# Altium footprint library Misc.TH.PcbLib: 66 footprints (part 1 of 5)
Each footprint in its own frame and in the unit in brackets; x right, y up, seen from the top. Pads: shape width x height; smd on the part's side, far side on the other; paste and mask are expansions set on the pad; w line width, h text height; cw(c..) or ccw(c..) is an arc to the next point about the centre after c.
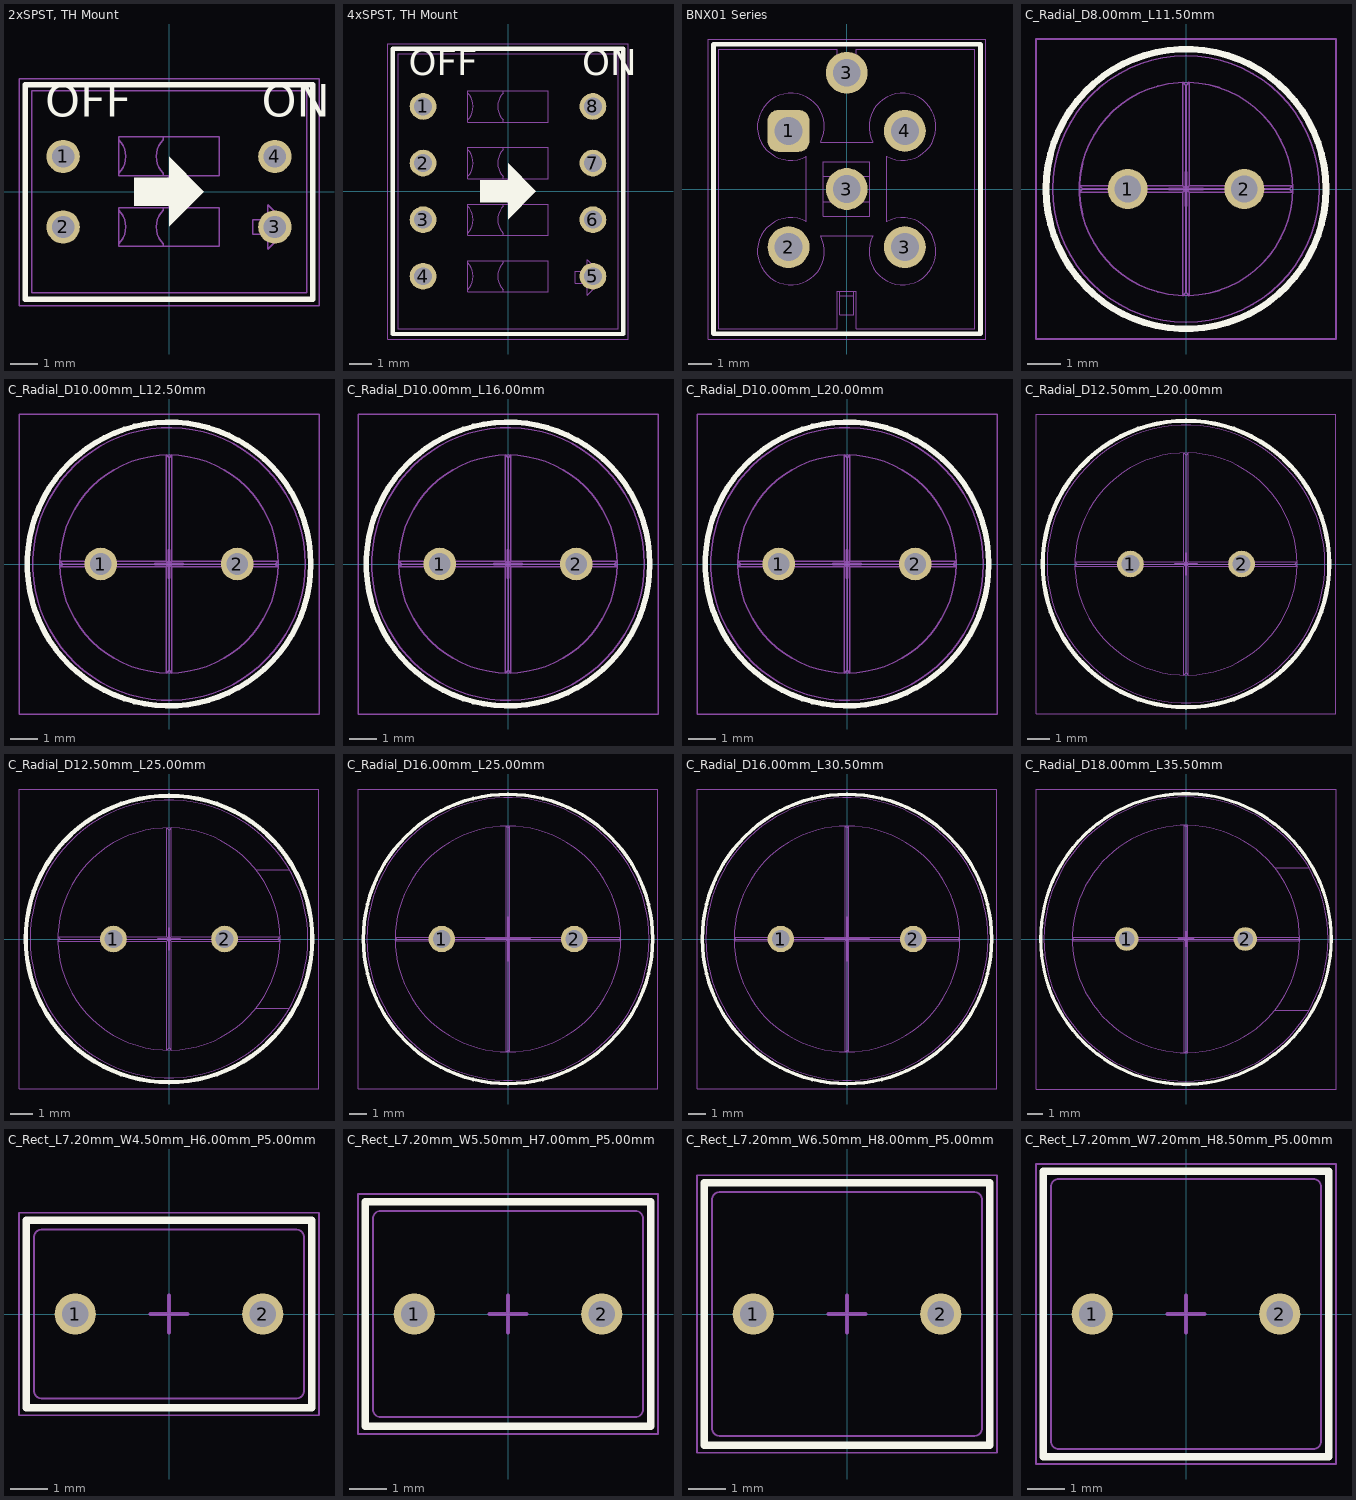
[diagram p0: the footprints below, top view; thin cyan lines are the x and y axes]

## 2xSPST, TH Mount [mm] "Dual SPST Switch, TH-Mount, 9.90x7.26mm Package, Pitch 2.54mm"
height 5.85
pads (4):
  round 1.2 hole 0.8: 1(-3.81,1.27) 2(-3.81,-1.27) 3(3.81,-1.27) 4(3.81,1.27)
Top Overlay:
  region: -1.25,-0.5 -1.25,0.5 0,0.5 0,1.25 1.25,0 0,-1.25 0,-0.5
  lines w0.2: -5.175,-3.875 -5.175,3.85 5.175,3.85 5.175,-3.875 -5.175,-3.875
  text "OFF" at -4.453,2.295 h2
  text "ON" at 3.334,2.295 h2
Mechanical 1:
  lines w0.05: -1.81,-1.872 ccw(c-2.41,-1.27) -1.81,-0.668 ; -1.81,0.668 ccw(c-2.41,1.27) -1.81,1.872 ; -0.21,-1.97 -0.21,-1.872 cw(c0.39,-1.27) -0.21,-0.668 -0.21,-0.57 ; -0.21,0.57 -0.21,0.668 cw(c0.39,1.27) -0.21,1.872 -0.21,1.97 ; -4.95,-3.63 4.95,-3.63 4.95,3.63 -4.95,3.63 -4.95,-3.63 ; -1.81,-1.97 1.81,-1.97 1.81,-0.57 -1.81,-0.57 -1.81,-1.97 ; -1.81,0.57 1.81,0.57 1.81,1.97 -1.81,1.97 -1.81,0.57 ; 3.017,-1.537 3.55,-1.537 3.55,-2.07 4.35,-1.27 3.55,-0.47 3.55,-1.003 3.017,-1.003 3.017,-1.537
Mechanical 15:
  lines w0.05: -5.4,-4.1 -5.4,4.075 5.4,4.075 5.4,-4.1 -5.4,-4.1
  lines w0.1: -0.5,0 0.5,0 ; 0,-0.5 0,0.5
3D body "SW_DIP_SPSTx02_Slide_9.78x7.26mm_W7.62mm_P2.54mm.step": height 6.75, standoff -3.2, extent -4.95,-3.63 4.95,3.63

## 4xSPST, TH Mount [mm] "Quad SPST Switch, TH-Mount, 9.90x12.34mm Package, Pitch 2.54mm"
height 5.85
pads (8):
  round 1.2 hole 0.8: 1(-3.81,3.81) 2(-3.81,1.27) 3(-3.81,-1.27) 4(-3.81,-3.81) 5(3.81,-3.81) 6(3.81,-1.27) 7(3.81,1.27) 8(3.81,3.81)
Top Overlay:
  region: -1.25,-0.5 -1.25,0.5 0,0.5 0,1.25 1.25,0 0,-1.25 0,-0.5
  lines w0.2: -5.175,-6.4 5.175,-6.4 5.175,6.4 -5.175,6.4 -5.175,-6.4
  text "ON" at 3.334,4.835 h2
  text "OFF" at -4.453,4.835 h2
Mechanical 1:
  lines w0.05: -4.95,6.17 -4.95,-6.17 4.95,-6.17 4.95,6.17 -4.95,6.17 ; -1.81,-4.412 ccw(c-2.41,-3.81) -1.81,-3.208 ; -1.81,-1.872 ccw(c-2.41,-1.27) -1.81,-0.668 ; -1.81,0.668 ccw(c-2.41,1.27) -1.81,1.872 ; -1.81,3.208 ccw(c-2.41,3.81) -1.81,4.412 ; -0.21,-4.51 -0.21,-4.412 cw(c0.39,-3.81) -0.21,-3.208 -0.21,-3.11 ; -0.21,-1.97 -0.21,-1.872 cw(c0.39,-1.27) -0.21,-0.668 -0.21,-0.57 ; -0.21,0.57 -0.21,0.668 cw(c0.39,1.27) -0.21,1.872 -0.21,1.97 ; -0.21,3.11 -0.21,3.208 cw(c0.39,3.81) -0.21,4.412 -0.21,4.51 ; -1.81,-4.51 -1.81,-3.11 1.81,-3.11 1.81,-4.51 -1.81,-4.51 ; -1.81,-1.97 -1.81,-0.57 1.81,-0.57 1.81,-1.97 -1.81,-1.97 ; -1.81,0.57 1.81,0.57 1.81,1.97 -1.81,1.97 -1.81,0.57 ; -1.81,3.11 -1.81,4.51 1.81,4.51 1.81,3.11 -1.81,3.11 ; 3.017,-4.127 3.017,-3.593 3.55,-3.593 3.55,-3.06 4.35,-3.86 3.55,-4.66 3.55,-4.127 3.017,-4.127
Mechanical 15:
  lines w0.05: -5.4,-6.625 5.4,-6.625 5.4,6.625 -5.4,6.625 -5.4,-6.625
  lines w0.1: -0.5,0 0.5,0 ; 0,-0.5 0,0.5
3D body "SW_DIP_SPSTx04_Slide_9.78x12.34mm_W7.62mm_P2.54mm.step": height 6.75, standoff -3.2, extent -4.95,-6.17 4.95,6.17

## BNX01 Series [mm] "Murata BNX01 Series Filter, 12.00x11.00mm, 6-Leads, 2.50mm Pitch"
height 8
pads (6):
  rrect50% 1.8x1.8 hole 1.2: 1(-2.5,2.5)
  round 1.8 hole 1.2: 2(-2.5,-2.5) 3(0,0) 3(0,5) 3(2.5,-2.5) 4(2.5,2.5)
Top Overlay:
  lines w0.2: -5.725,-6.225 5.75,-6.225 5.75,6.225 -5.725,6.225 -5.725,-6.225
Mechanical 1:
  lines w0.05: -1,-0.546 1,-0.546 ; -1,0.546 1,0.546 ; -0.3,-4.6 0.3,-4.6 ; -0.3,-4.4 -0.3,-5.4 0.3,-5.4 0.3,-4.4 ; -5.5,-6 -0.4,-6 -0.4,-4.4 0.4,-4.4 0.4,-6 5.5,-6 5.5,6 0.4,6 0.4,4.4 -0.4,4.4 -0.4,6 -5.5,6 -5.5,-6 ; -1.73,-1.4 ccw(c-2.4,-2.676) -1.124,-2.006 1.124,-2.006 ccw(c2.4,-2.676) 1.73,-1.4 1.73,1.4 ccw(c2.4,2.676) 1.124,2.006 -1.124,2.006 ccw(c-2.4,2.676) -1.73,1.4 -1.73,-1.4 ; -1,-1.176 1,-1.176 1,1.176 -1,1.176 -1,-1.176 ; -0.3,4.6 -0.3,5.4 0.3,5.4 0.3,4.6 -0.3,4.6
Mechanical 15:
  lines w0.05: -5.95,-6.45 5.975,-6.45 5.975,6.45 -5.95,6.45 -5.95,-6.45
  lines w0.1: -0.5,0 0.5,0 ; 0,-0.5 0,0.5
3D body "BNX016-01--3DModel-STEP-1.STEP": height 8.7, standoff -3.8, extent -5.5,-6 5.5,6

## C_Radial_D8.00mm_L11.50mm [mm] "Radial Capacitor, Diameter 8.00mm, Length 11.50mm, Pitch 3.50mm"
height 11.5
pads (2):
  round 1.2 hole 0.8: 1(-1.75,0) 2(1.75,0)
Top Overlay:
  circle w0.2: c0,0 r4.2
Mechanical 1:
  circle w0.05: c0,0 r4
  circle w0.05: c0,0 r3.2
  lines w0.05: -3.1,0 3.1,0 ; -3.1,0 -3.198,0.1 -0.1,0.1 ; -3.1,0 -3.198,-0.1 -0.1,-0.1 ; -0.1,-0.1 0.1,0.1 ; -0.1,-0.1 -0.1,-3.198 0,-3.1 ; -0.1,0.1 -0.1,3.198 0,3.1 ; -0.1,0.1 0.1,-0.1 ; 0,-3.1 0,3.1 ; 0,-3.1 0.1,-3.198 0.1,-0.1 ; 0,3.1 0.1,3.198 0.1,0.1 ; 0.1,-0.1 3.198,-0.1 3.1,0 ; 0.1,0.1 3.198,0.1 3.1,0
Mechanical 15:
  lines w0.05: -4.5,-4.5 -4.5,4.5 4.5,4.5 4.5,-4.5 -4.5,-4.5
  lines w0.1: -0.5,0 0.5,0 ; 0,-0.5 0,0.5
3D body "Capacitor_Unpolarised_Radial_D8.00mm_L11.50mm_P3.5mm.STEP": height 11.5, standoff -3.2, extent -4,-4 4,4

## C_Radial_D10.00mm_L12.50mm [mm] "Radial Capacitor, Diameter 10.00mm, Length 12.50mm, Pitch 5.00mm"
height 12.5
pads (2):
  round 1.2 hole 0.8: 1(-2.5,0) 2(2.5,0)
Top Overlay:
  circle w0.2: c0,0 r5.2
Mechanical 1:
  circle w0.05: c0,0 r4
  circle w0.05: c0,0 r5
  lines w0.05: -3.9,0 -3.999,-0.1 -0.1,-0.1 ; -3.9,0 -3.999,0.1 -0.1,0.1 ; -3.9,0 3.9,0 ; -0.1,-0.1 -0.1,-3.999 0,-3.9 ; -0.1,-0.1 0.1,0.1 ; -0.1,0.1 0.1,-0.1 ; -0.1,0.1 -0.1,3.999 0,3.9 ; 0,-3.9 0.1,-3.999 0.1,-0.1 ; 0,-3.9 0,3.9 ; 0,3.9 0.1,3.999 0.1,0.1 ; 0.1,-0.1 3.999,-0.1 3.9,0 ; 0.1,0.1 3.999,0.1 3.9,0
Mechanical 15:
  lines w0.05: -5.5,-5.5 5.5,-5.5 5.5,5.5 -5.5,5.5 -5.5,-5.5
  lines w0.1: -0.5,0 0.5,0 ; 0,-0.5 0,0.5
3D body "Capacitor_Unpolarised_Radial_D10.00mm_L12.50mm_P5.0mm.STEP": height 12.5, standoff -3.2, extent -4.994,-5 4.994,5

## C_Radial_D10.00mm_L16.00mm [mm] "Radial Capacitor, Diameter 10.00mm, Length 16.00mm, Pitch 5.00mm"
height 16
pads (2):
  round 1.2 hole 0.8: 1(-2.5,0) 2(2.5,0)
Top Overlay:
  circle w0.2: c0,0 r5.2
Mechanical 1:
  circle w0.05: c0,0 r4
  circle w0.05: c0,0 r5
  lines w0.05: -3.9,0 -3.999,-0.1 -0.1,-0.1 ; -3.9,0 -3.999,0.1 -0.1,0.1 ; -3.9,0 3.9,0 ; -0.1,-0.1 -0.1,-3.999 0,-3.9 ; -0.1,-0.1 0.1,0.1 ; -0.1,0.1 0.1,-0.1 ; -0.1,0.1 -0.1,3.999 0,3.9 ; 0,-3.9 0.1,-3.999 0.1,-0.1 ; 0,-3.9 0,3.9 ; 0,3.9 0.1,3.999 0.1,0.1 ; 0.1,-0.1 3.999,-0.1 3.9,0 ; 0.1,0.1 3.999,0.1 3.9,0
Mechanical 15:
  lines w0.05: -5.5,-5.5 5.5,-5.5 5.5,5.5 -5.5,5.5 -5.5,-5.5
  lines w0.1: -0.5,0 0.5,0 ; 0,-0.5 0,0.5
3D body "Capacitor_Unpolarised_Radial_D10.00mm_L16.00mm_P5.0mm.STEP": height 16, standoff -3.2, extent -4.994,-5 4.994,5

## C_Radial_D10.00mm_L20.00mm [mm] "Radial Capacitor, Diameter 10.00mm, Length 20.00mm, Pitch 5.00mm"
height 20
pads (2):
  round 1.2 hole 0.8: 1(-2.5,0) 2(2.5,0)
Top Overlay:
  circle w0.2: c0,0 r5.2
Mechanical 1:
  circle w0.05: c0,0 r5
  circle w0.05: c0,0 r4
  lines w0.05: -3.9,0 3.9,0 ; -3.9,0 -3.999,0.1 -0.1,0.1 ; -3.9,0 -3.999,-0.1 -0.1,-0.1 ; -0.1,-0.1 0.1,0.1 ; -0.1,-0.1 -0.1,-3.999 0,-3.9 ; -0.1,0.1 -0.1,3.999 0,3.9 ; -0.1,0.1 0.1,-0.1 ; 0,-3.9 0,3.9 ; 0,-3.9 0.1,-3.999 0.1,-0.1 ; 0,3.9 0.1,3.999 0.1,0.1 ; 0.1,-0.1 3.999,-0.1 3.9,0 ; 0.1,0.1 3.999,0.1 3.9,0
Mechanical 15:
  lines w0.05: -5.5,-5.5 -5.5,5.5 5.5,5.5 5.5,-5.5 -5.5,-5.5
  lines w0.1: -0.5,0 0.5,0 ; 0,-0.5 0,0.5
3D body "Capacitor_Unpolarised_Radial_D10.00mm_L20.00mm_P5.0mm.STEP": height 20, standoff -3.2, extent -4.994,-5 4.994,5

## C_Radial_D12.50mm_L20.00mm [mm] "Radial Capacitor, Diameter 12.50mm, Length 20.00mm, Pitch 5.00mm"
height 20
pads (2):
  round 1.2 hole 0.8: 1(-2.5,0) 2(2.5,0)
Top Overlay:
  circle w0.2: c0,0 r6.45
Mechanical 1:
  circle w0.05: c0,0 r6.25
  circle w0.05: c0,0 r5
  lines w0.05: -4.9,0 4.9,0 ; -4.9,0 -4.999,0.1 -0.1,0.1 ; -4.9,0 -4.999,-0.1 -0.1,-0.1 ; -0.1,-0.1 0.1,0.1 ; -0.1,-0.1 -0.1,-4.999 0,-4.9 ; -0.1,0.1 -0.1,4.999 0,4.9 ; -0.1,0.1 0.1,-0.1 ; 0,-4.9 0,4.9 ; 0,-4.9 0.1,-4.999 0.1,-0.1 ; 0,4.9 0.1,4.999 0.1,0.1 ; 0.1,-0.1 4.999,-0.1 4.9,0 ; 0.1,0.1 4.999,0.1 4.9,0
Mechanical 15:
  lines w0.05: -6.75,-6.75 6.75,-6.75 6.75,6.75 -6.75,6.75 -6.75,-6.75
  lines w0.1: -0.5,0 0.5,0 ; 0,-0.5 0,0.5
3D body "Capacitor_Unpolarised_Radial_D12.50mm_L20.00mm_P5.0mm.STEP": height 20, standoff -3.2, extent -6.238,-6.25 6.238,6.25

## C_Radial_D12.50mm_L25.00mm [mm] "Radial Capacitor, Diameter 12.50mm, Length 25.00mm, Pitch 5.00mm"
height 25
pads (2):
  round 1.2 hole 0.8: 1(-2.5,0) 2(2.5,0)
Top Overlay:
  circle w0.2: c0,0 r6.45
Mechanical 1:
  circle w0.05: c0,0 r5
  circle w0.05: c0,0 r6.25
  lines w0.05: 3.903,-3.125 5.049,-3.125 5.413,-3.125 ; 3.903,3.125 5.049,3.125 5.413,3.125 ; -4.9,0 -4.999,-0.1 -0.1,-0.1 ; -4.9,0 -4.999,0.1 -0.1,0.1 ; -4.9,0 4.9,0 ; -0.1,-0.1 -0.1,-4.999 0,-4.9 ; -0.1,-0.1 0.1,0.1 ; -0.1,0.1 0.1,-0.1 ; -0.1,0.1 -0.1,4.999 0,4.9 ; 0,-4.9 0.1,-4.999 0.1,-0.1 ; 0,-4.9 0,4.9 ; 0,4.9 0.1,4.999 0.1,0.1 ; 0.1,-0.1 4.999,-0.1 4.9,0 ; 0.1,0.1 4.999,0.1 4.9,0
Mechanical 15:
  lines w0.05: -6.75,-6.75 -6.75,6.75 6.75,6.75 6.75,-6.75 -6.75,-6.75
  lines w0.1: -0.5,0 0.5,0 ; 0,-0.5 0,0.5
3D body "Capacitor_Unpolarised_Radial_D12.50mm_L25.00mm_P5.0mm.STEP": height 25, standoff -3.2, extent -6.25,-6.25 6.25,6.25

## C_Radial_D16.00mm_L25.00mm [mm] "Radial Capacitor, Diameter 16.00mm, Length 25.00mm, Pitch 7.50mm"
height 25
pads (2):
  round 1.5 hole 1: 1(-3.75,0) 2(3.75,0)
Top Overlay:
  circle w0.2: c0,0 r8.2
Mechanical 1:
  circle w0.05: c0,0 r8
  circle w0.05: c0,0 r6.4
  lines w0.05: -6.3,0 6.3,0 ; -6.3,0 -6.399,0.1 -0.1,0.1 ; -6.3,0 -6.399,-0.1 -0.1,-0.1 ; -0.1,-0.1 0.1,0.1 ; -0.1,-0.1 -0.1,-6.399 0,-6.3 ; -0.1,0.1 -0.1,6.399 0,6.3 ; -0.1,0.1 0.1,-0.1 ; 0,-6.3 0,6.3 ; 0,-6.3 0.1,-6.399 0.1,-0.1 ; 0,6.3 0.1,6.399 0.1,0.1 ; 0.1,-0.1 6.399,-0.1 6.3,0 ; 0.1,0.1 6.399,0.1 6.3,0
Mechanical 15:
  lines w0.05: -8.5,-8.5 -8.5,8.5 8.5,8.5 8.5,-8.5 -8.5,-8.5
  lines w0.1: -1.25,0 1.25,0 ; 0,-1.25 0,1.25
3D body "Capacitor_Unpolarised_Radial_D16.00mm_L25.00mm_P7.5mm.STEP": height 25, standoff -3.2, extent -7.99,-8 7.99,8

## C_Radial_D16.00mm_L30.50mm [mm] "Radial Capacitor, Diameter 16.00mm, Length 30.50mm, Pitch 7.50mm"
height 30.5
pads (2):
  round 1.5 hole 1: 1(-3.75,0) 2(3.75,0)
Top Overlay:
  circle w0.2: c0,0 r8.2
Mechanical 1:
  circle w0.05: c0,0 r6.4
  circle w0.05: c0,0 r8
  lines w0.05: -6.3,0 -6.399,-0.1 -0.1,-0.1 ; -6.3,0 -6.399,0.1 -0.1,0.1 ; -6.3,0 6.3,0 ; -0.1,-0.1 -0.1,-6.399 0,-6.3 ; -0.1,-0.1 0.1,0.1 ; -0.1,0.1 0.1,-0.1 ; -0.1,0.1 -0.1,6.399 0,6.3 ; 0,-6.3 0.1,-6.399 0.1,-0.1 ; 0,-6.3 0,6.3 ; 0,6.3 0.1,6.399 0.1,0.1 ; 0.1,-0.1 6.399,-0.1 6.3,0 ; 0.1,0.1 6.399,0.1 6.3,0
Mechanical 15:
  lines w0.05: -8.5,-8.5 8.5,-8.5 8.5,8.5 -8.5,8.5 -8.5,-8.5
  lines w0.1: -1.25,0 1.25,0 ; 0,-1.25 0,1.25
3D body "Capacitor_Unpolarised_Radial_D16.00mm_L30.50mm_P7.5mm.STEP": height 30.5, standoff -3.2, extent -7.99,-8 7.99,8

## C_Radial_D18.00mm_L35.50mm [mm] "Radial Capacitor, Diameter 18.00mm, Length 35.50mm, Pitch 7.50mm"
height 35.5
pads (2):
  round 1.5 hole 1: 1(-3.75,0) 2(3.75,0)
Top Overlay:
  circle w0.2: c0,0 r9.2
Mechanical 1:
  circle w0.05: c0,0 r7.2
  circle w0.05: c0,0 r9
  lines w0.05: 5.62,-4.5 7.27,-4.5 7.794,-4.5 ; 5.62,4.5 7.27,4.5 7.794,4.5 ; -7.1,0 -7.199,-0.1 -0.1,-0.1 ; -7.1,0 -7.199,0.1 -0.1,0.1 ; -7.1,0 7.1,0 ; -0.1,-0.1 -0.1,-7.199 0,-7.1 ; -0.1,-0.1 0.1,0.1 ; -0.1,0.1 0.1,-0.1 ; -0.1,0.1 -0.1,7.199 0,7.1 ; 0,-7.1 0.1,-7.199 0.1,-0.1 ; 0,-7.1 0,7.1 ; 0,7.1 0.1,7.199 0.1,0.1 ; 0.1,-0.1 7.199,-0.1 7.1,0 ; 0.1,0.1 7.199,0.1 7.1,0
Mechanical 15:
  lines w0.05: -9.5,-9.5 9.5,-9.5 9.5,9.5 -9.5,9.5 -9.5,-9.5
  lines w0.1: -0.5,0 0.5,0 ; 0,-0.5 0,0.5
3D body "Capacitor_Unpolarised_Radial_D18.00mm_L35.50mm_P7.5mm.STEP": height 35.5, standoff -3.2, extent -9,-9 9,9

## C_Rect_L7.20mm_W4.50mm_H6.00mm_P5.00mm [mm] "Rectangular Capacitor, Length 7.20mm, Width 4.50mm, Height 6.00mm, Pitch 5.00mm"
height 6
pads (2):
  round 1.1 hole 0.7: 1(-2.5,0) 2(2.5,0)
Top Overlay:
  lines w0.2: -3.8,-2.5 3.8,-2.5 3.8,2.5 -3.8,2.5 -3.8,-2.5
Mechanical 1:
  lines w0.05: -3.6,-2.05 ccw(c-3.4,-2.05) -3.4,-2.25 3.4,-2.25 ccw(c3.4,-2.05) 3.6,-2.05 3.6,2.05 ccw(c3.4,2.05) 3.4,2.25 -3.4,2.25 ccw(c-3.4,2.05) -3.6,2.05 -3.6,-2.05
Mechanical 15:
  lines w0.05: -4,-2.7 4,-2.7 4,2.7 -4,2.7 -4,-2.7
  lines w0.1: -0.5,0 0.5,0 ; 0,-0.5 0,0.5
3D body "Capacitor_Rectangle_L7.20mm_W4.50mm_H6.00mm_P5.00mm.STEP": height 6, standoff -3.2, extent -3.6,-2.25 3.6,2.25

## C_Rect_L7.20mm_W5.50mm_H7.00mm_P5.00mm [mm] "Rectangular Capacitor, Length 7.20mm, Width 5.50mm, Height 7.00mm, Pitch 5.00mm"
height 7
pads (2):
  round 1.1 hole 0.7: 1(-2.5,0) 2(2.5,0)
Top Overlay:
  lines w0.2: -3.8,-3 3.8,-3 3.8,3 -3.8,3 -3.8,-3
Mechanical 1:
  lines w0.05: -3.6,-2.55 ccw(c-3.4,-2.55) -3.4,-2.75 3.4,-2.75 ccw(c3.4,-2.55) 3.6,-2.55 3.6,2.55 ccw(c3.4,2.55) 3.4,2.75 -3.4,2.75 ccw(c-3.4,2.55) -3.6,2.55 -3.6,-2.55
Mechanical 15:
  lines w0.05: -4,-3.2 4,-3.2 4,3.2 -4,3.2 -4,-3.2
  lines w0.1: -0.5,0 0.5,0 ; 0,-0.5 0,0.5
3D body "Capacitor_Rectangle_L7.20mm_W5.50mm_H7.00mm_P5.00mm.STEP": height 7, standoff -3.2, extent -3.6,-2.75 3.6,2.75

## C_Rect_L7.20mm_W6.50mm_H8.00mm_P5.00mm [mm] "Rectangular Capacitor, Length 7.20mm, Width 6.50mm, Height 8.00mm, Pitch 5.00mm"
height 8
pads (2):
  round 1.1 hole 0.7: 1(-2.5,0) 2(2.5,0)
Top Overlay:
  lines w0.2: -3.8,-3.5 -3.8,3.5 3.8,3.5 3.8,-3.5 -3.8,-3.5
Mechanical 1:
  lines w0.05: -3.6,-3.05 ccw(c-3.4,-3.05) -3.4,-3.25 3.4,-3.25 ccw(c3.4,-3.05) 3.6,-3.05 3.6,3.05 ccw(c3.4,3.05) 3.4,3.25 -3.4,3.25 ccw(c-3.4,3.05) -3.6,3.05 -3.6,-3.05
Mechanical 15:
  lines w0.05: -4,-3.7 -4,3.7 4,3.7 4,-3.7 -4,-3.7
  lines w0.1: -0.5,0 0.5,0 ; 0,-0.5 0,0.5
3D body "Capacitor_Rectangle_L7.20mm_W6.50mm_H8.00mm_P5.00mm.STEP": height 8, standoff -3.2, extent -3.6,-3.25 3.6,3.25

## C_Rect_L7.20mm_W7.20mm_H8.50mm_P5.00mm [mm] "Rectangular Capacitor, Length 7.20mm, Width 7.20mm, Height 8.50mm, Pitch 5.00mm"
height 8.5
pads (2):
  round 1.1 hole 0.7: 1(-2.5,0) 2(2.5,0)
Top Overlay:
  lines w0.2: -3.8,-3.8 3.8,-3.8 3.8,3.8 -3.8,3.8 -3.8,-3.8
Mechanical 1:
  lines w0.05: -3.6,-3.4 ccw(c-3.4,-3.4) -3.4,-3.6 3.4,-3.6 ccw(c3.4,-3.4) 3.6,-3.4 3.6,3.4 ccw(c3.4,3.4) 3.4,3.6 -3.4,3.6 ccw(c-3.4,3.4) -3.6,3.4 -3.6,-3.4
Mechanical 15:
  lines w0.05: -4,-4 4,-4 4,4 -4,4 -4,-4
  lines w0.1: -0.5,0 0.5,0 ; 0,-0.5 0,0.5
3D body "Capacitor_Rectangle_L7.20mm_W7.20mm_H8.50mm_P5.00mm.STEP": height 8.5, standoff -3.2, extent -3.6,-3.6 3.6,3.6